# Altium footprint library 691 214 110 0xxS.PcbLib: 2 footprints
Each footprint in its own frame and in the unit in brackets; x right, y up, seen from the top. Pads: shape width x height; smd on the part's side, far side on the other; paste and mask are expansions set on the pad; w line width, h text height; cw(c..) or ccw(c..) is an arc to the next point about the centre after c.
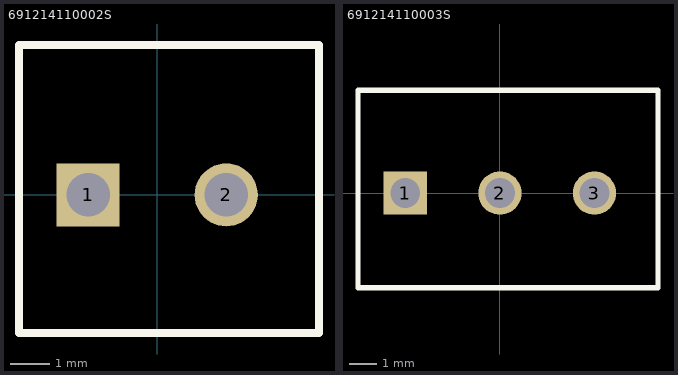
[diagram p0: the footprints below, top view; thin cyan lines are the x and y axes]

## 691214110002S [mm] "Serie 2141S - 3.50 mm _ 2 pins"
height 9.1
pads (2):
  rect 1.6x1.6 hole 1.1: 1(-1.75,0)
  round 1.6 hole 1.1: 2(1.75,0)
Top Overlay:
  lines w0.2: -3.5,-3.5 -3.5,3.8 4.1,3.8 4.1,-3.5 -3.5,-3.5
3D body: height 9.2, standoff -3.4, extent -3.5,-3.55 4.1,3.75

## 691214110003S [mm] "Serie 2141S - 3.50 mm _ 3 pins"
height 9.1
pads (3):
  rect 1.6x1.6 hole 1.1: 1(-3.5,0)
  round 1.6 hole 1.1: 2(0,0) 3(3.5,0)
Top Overlay:
  lines w0.2: -5.25,-3.5 -5.25,3.8 5.85,3.8 5.85,-3.5 -5.25,-3.5
3D body: height 9.2, standoff -3.4, extent -5.25,-3.5 5.85,3.8